# Altium footprint library BNO055.PcbLib: 1 footprints
Each footprint in its own frame and in the unit in brackets; x right, y up, seen from the top. Pads: shape width x height; smd on the part's side, far side on the other; paste and mask are expansions set on the pad; w line width, h text height; cw(c..) or ccw(c..) is an arc to the next point about the centre after c.
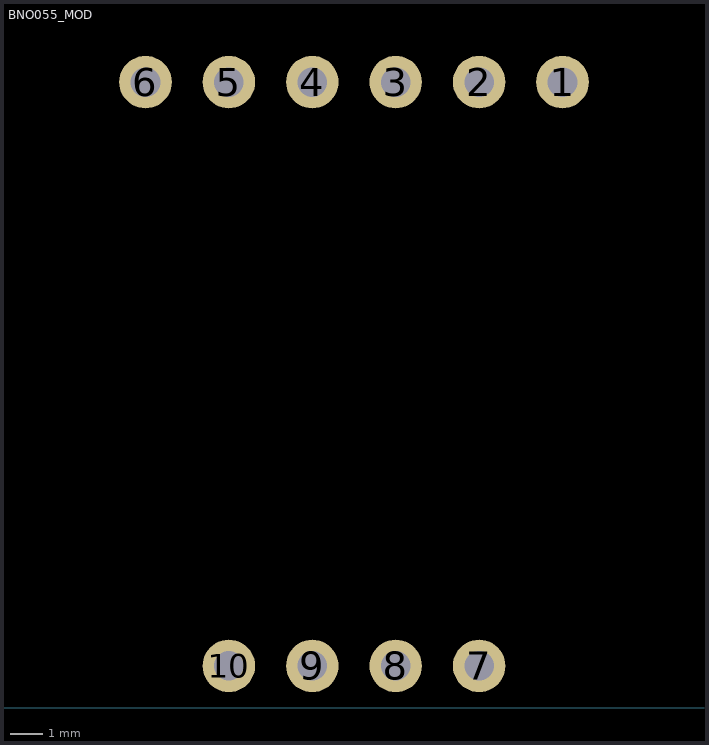
[diagram p0: the footprint, top view; thin cyan lines are the x and y axes]

## BNO055_MOD [mm]
pads (10):
  round 1.6 hole 0.9: 1(19.685,19.05) 2(17.145,19.05) 3(14.605,19.05) 4(12.065,19.05) 5(9.525,19.05) 6(6.985,19.05) 7(17.145,1.27) 8(14.605,1.27) 9(12.065,1.27) 10(9.525,1.27)
3D body "Adafruit 9-DOF BNO055--3DModel-STEP-510211.STEP": height 3.23, standoff -1, extent 0,0 26.67,20.32